# EAGLE library part DCDC1_SL_DEV (library POWER)
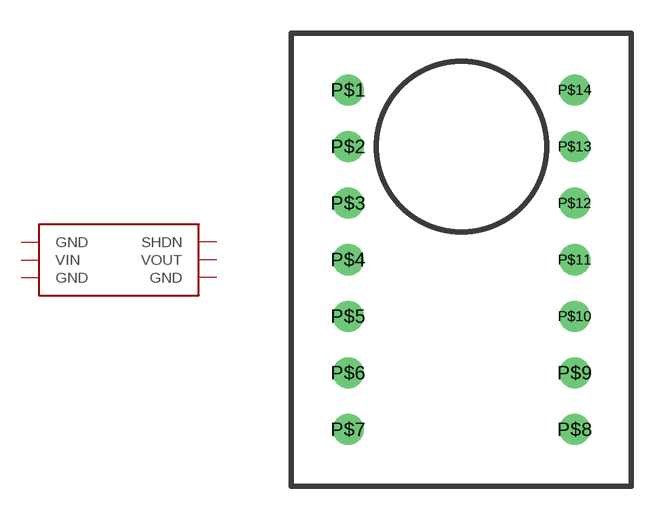
[diagram p0: symbol with the pads of DCDC1_SL_PAC; footprint DCDC1_SL_PAC]

Designator prefix -

## DCDC1_SL_DEV  [DCDC1_SL_PAC]
P$1  GND  sup
P$4  VIN  pwr
P$7  GND  sup
P$8  GND  sup
P$11  VOUT  pwr
P$14  SHDN  in

## Footprint DCDC1_SL_PAC (pad centres in mm)
drill 0.889 pad 1.372 round: P$1 0,-2.54; P$2 0,-5.08; P$3 0,-7.62; P$4 0,-10.16; P$5 0,-12.7; P$6 0,-15.24; P$7 0,-17.78; P$8 10.16,-17.78; P$9 10.16,-15.24; P$10 10.16,-12.7; P$11 10.16,-10.16; P$12 10.16,-7.62; P$13 10.16,-5.08; P$14 10.16,-2.54